# Altium footprint library L23.PcbLib: 56 footprints (part 2 of 4)
Each footprint in its own frame and in the unit in brackets; x right, y up, seen from the top. Pads: shape width x height; smd on the part's side, far side on the other; paste and mask are expansions set on the pad; w line width, h text height; cw(c..) or ccw(c..) is an arc to the next point about the centre after c.
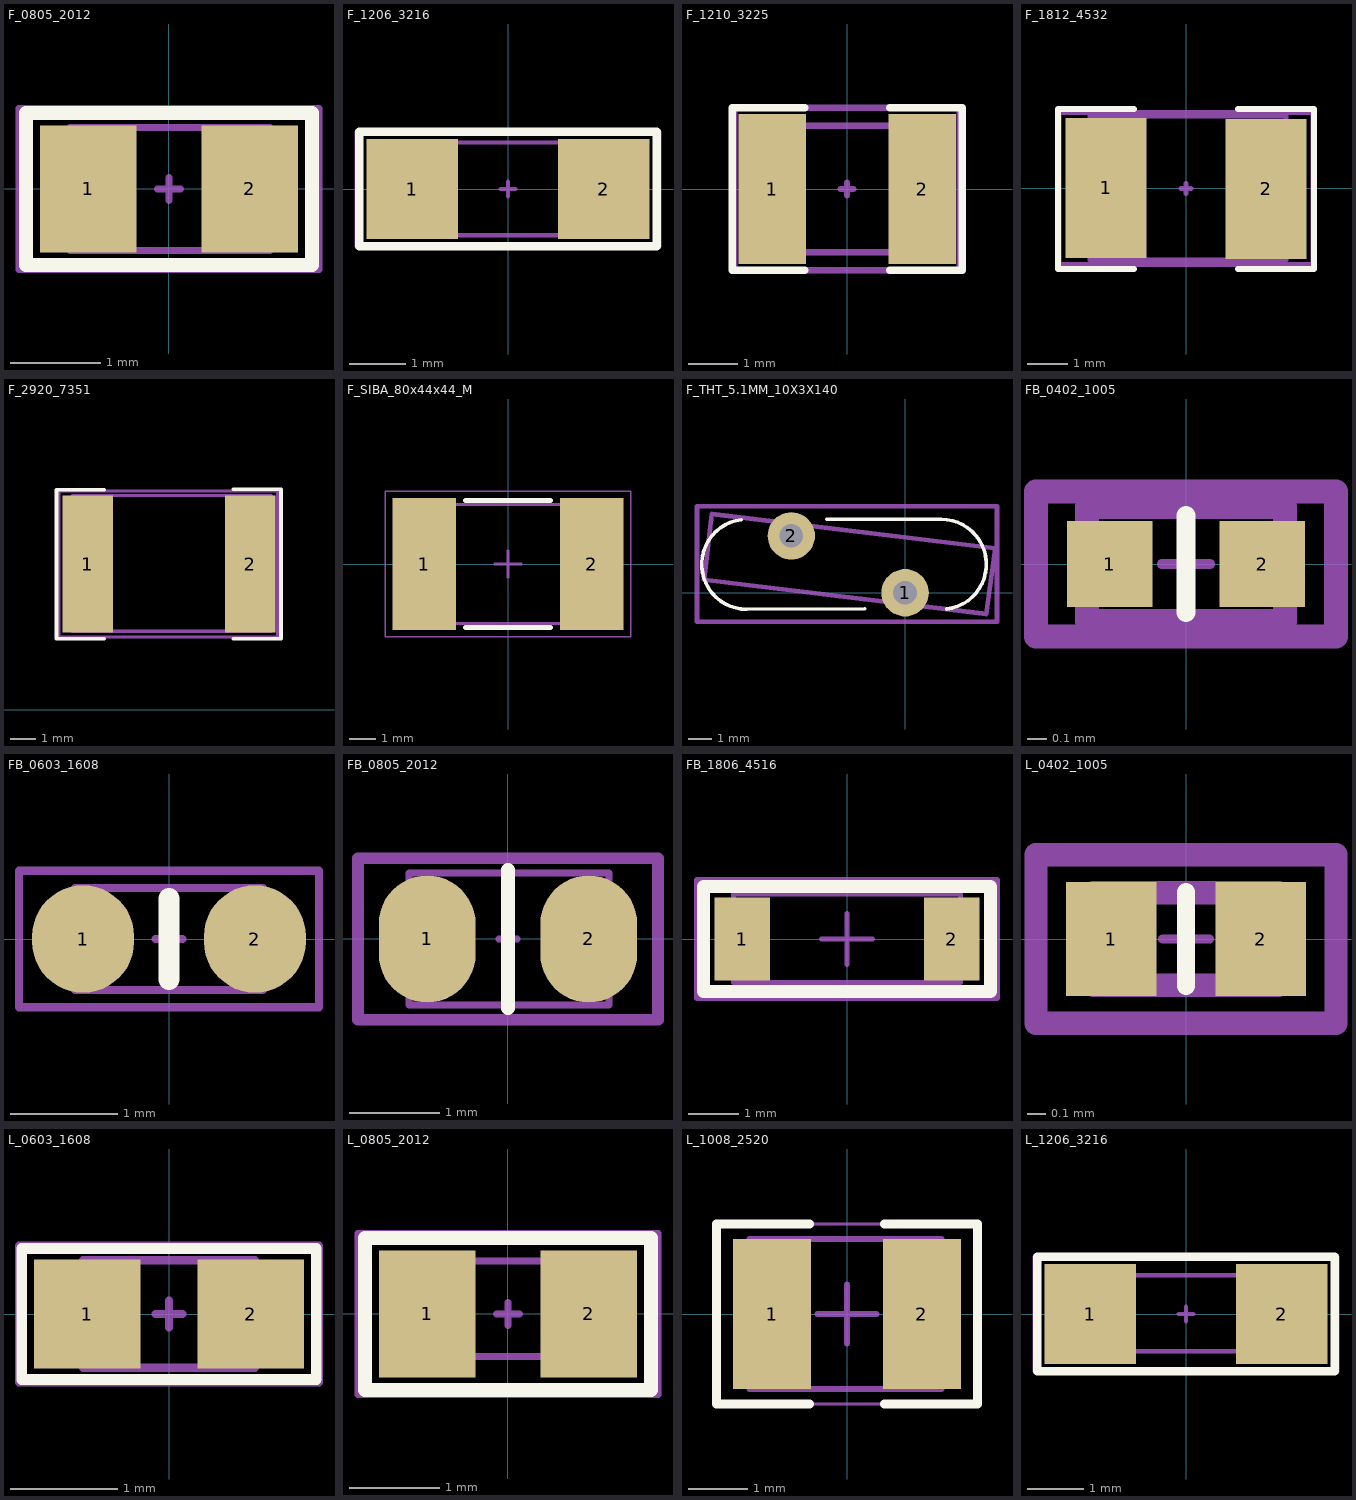
[diagram p1: the footprints below, top view; thin cyan lines are the x and y axes]

## F_0805_2012 [mil]
pads (2):
  rect 42x55 smd: 1(-35,0) 2(35,0)
Top Overlay:
  lines w6: -62,-33 -62,33 62,33 62,-33 -62,-33
Mechanical 13:
  lines w3: -42.93,-26.57 43.69,-26.57 43.69,26.58 -42.93,26.58 -42.93,-26.57
Mechanical 15:
  lines w3: -5,0 5,0 ; 0,-5 0,5 ; -65,-35 65,-35 65,35 -65,35 -65,-35
Mechanical 17:
  text "'.Designator'" at -45,-20 h10
Mechanical 19:
  text "'.Comment'" at -45,-20 h10
3D body "RES 0805 (2012 metric).STEP": height 27.05, standoff -0.51, extent -42.93,-26.57 43.69,26.58

## F_1206_3216 [mil]
pads (2):
  rect 64x70 smd: 1(-67,0) 2(67,0)
Top Overlay:
  lines w6: -104,-40 104,-40 104,40 -35,40 -104,40 -104,-40
Mechanical 13:
  lines w3: -62.88,-32.47 65.07,-32.47 65.07,32.49 -62.88,32.49 -62.88,-32.47
Mechanical 15:
  lines w3: -5,0 5,0 ; 0,-5 0,5
  lines w5: -105,-40 105,-40 105,40 -105,40 -105,-40
Mechanical 17:
  text "'.Designator'" at -70,-25 h15
Mechanical 19:
  text "'.Comment'" at -70,-25 h15
3D body "RES 1206 (3216 metric).STEP": height 27.05, standoff -0.51, extent -62.88,-32.47 65.07,32.49

## F_1210_3225 [mil]
pads (2):
  rect 54x120 smd: 1(-60,0) 2(60,0)
Top Overlay:
  lines w6: -34,-65 -92,-65 -92,65 -34,65 ; 34,-65 92,-65 92,65 34,65
Mechanical 13:
  lines w5: -63.28,-50.68 63.29,-50.68 63.29,50.69 -63.28,50.69 -63.28,-50.68
Mechanical 15:
  lines w5: -90,-65 -90,65 90,65 90,-65 -90,-65
Mechanical 17:
  text "'.Designator'" at -65,-40 h15
Mechanical 19:
  lines w5: -5,0 5,0 ; 0,-5 0,5
  text "'.Comment'" at -65,-40 h15
3D body "User Library-Fuse1210.step": height 26.57, standoff 0, extent -63.28,-50.68 63.29,50.69

## F_1812_4532 [mm]
pads (2):
  rect 2.032x3.5 smd: 1(-2,0.012) 2(2,-0.012)
Top Overlay:
  lines w0.152: -1.3,1.987 -3.205,1.987 -3.2,-2.013 -1.295,-2.013 ; 1.295,-2.013 3.2,-2.013 3.2,1.987 1.295,1.987
Mechanical 13:
  lines w0.127: -2.4,-1.787 -2.4,1.813 2.5,1.813 2.5,-1.787 -2.4,-1.787
Mechanical 15:
  lines w0.127: -0.127,0 0.127,0 ; 0,-0.127 0,0.127 ; -3.175,-1.905 -3.175,1.905 3.175,1.905 3.175,-1.905 -3.175,-1.905
Mechanical 17:
  text "'.Designator'" at -2.54,-1.524 h0.38
Mechanical 19:
  text "'.Comment'" at -2.54,-1.524 h0.38
3D body "CAP_1812.STEP": height 2.79, standoff -0.01, extent -2.4,-1.787 2.5,1.813

## F_2920_7351 [mil]
pads (2):
  rect 80x216.53 smd: 1(200,230) 2(456.89,230)
Top Overlay:
  lines w6: 225.79,111.89 150.79,111.89 150.79,347.13 225.79,347.13 ; 430.12,111.89 505.12,111.89 505.12,348.11 430.12,348.11
Mechanical 13:
  lines w5: 175.63,123.92 489.8,123.92 489.8,338.09 175.63,338.09 175.63,123.92
Mechanical 15:
  lines w5: 155,115 500,115 500,345 155,345 155,115
Mechanical 17:
  text "'.Designator'" at 170,135 h15
Mechanical 19:
  text "'.Comment'" at 170,135 h15
3D body "User Library-Fuse2920.step": height 15.24, standoff -16.26, extent 175.63,123.92 489.8,338.09

## F_SIBA_80x44x44_M [mm] "Fuse, 2-Leads, Body 8,00x4,50mm, IPC Medium Density"
height 4.5
pads (2):
  rect 2.4x5 smd: 1(-3.175,0) 2(3.175,0)
Top Overlay:
  lines w0.2: -1.6,-2.4 1.6,-2.4 ; -1.6,2.4 1.6,2.4
Mechanical 13:
  lines w0.1: -4,-2.25 4,-2.25 4,2.25 -4,2.25 -4,-2.25
Mechanical 15:
  lines w0.05: -4.65,-2.75 4.65,-2.75 4.65,2.75 -4.65,2.75 -4.65,-2.75
  lines w0.1: -0.5,0 0.5,0 ; 0,-0.5 0,0.5
Mechanical 17:
  text "'.Designator'" at -3,-0.1 h0.64
Mechanical 19:
  text "'.Comment'" at -3,-0.1 h0.64
  text "'.Designator'" at -3,-0.1 h0.64
3D body: height 4.5, standoff 0, extent 2,-2.25 4,2.25
3D body: height 4.5, standoff 0, extent -4,-2.25 -2,2.25
3D body: height 4.5, standoff 0, extent -2,-2.25 2,2.25

## F_THT_5.1MM_10X3X140 [mm]
pads (2):
  round 2 hole 1: 1(0,0) 2(-4.8,2.4)
Top Overlay:
  lines w0.152: -6.907,3.086 ccw(c-6.675,1.2) -6.675,-0.7 -1.702,-0.678 ; -3.301,3.1 1.525,3.1 ; 1.524,3.1 cw(c1.524,1.2) 1.756,-0.686
Assembly Top:
  lines w0.2: -8.475,0.55 -8.15,3.325 3.8,1.875 3.425,-0.9 -8.475,0.55
Courtyard Top:
  lines w0.2: -8.775,-1.225 -8.775,3.65 3.875,3.65 3.875,-1.225 -8.775,-1.225
3D body "User Library-MF-R250.STEP": height 18.3, standoff -7.6, extent -8.502,-0.93 3.752,3.331

## FB_0402_1005 [mm]
pads (2):
  rect 0.45x0.45 smd: 1(-0.4,0) 2(0.4,0)
Top Overlay:
  lines w0.1: 0,-0.254 0,0.254
Mechanical 13:
  lines w0.127: -0.52,-0.3 0.52,-0.3 0.52,0.3 -0.52,0.3 -0.52,-0.3
Mechanical 15:
  lines w0.051: -0.127,0 0.127,0 ; 0,-0.127 0,0.127
  lines w0.127: -0.787,-0.381 -0.787,0.381 0.787,0.381 0.787,-0.381 -0.787,-0.381
Mechanical 17:
  text "'.Designator'" at -0.384,-0.125 h0.25
Mechanical 19:
  text "'.Comment'" at -0.381,-0.127 h0.25
3D body "User Library-0402R.STEP": height 0.34, standoff 0, extent -0.52,-0.3 0.52,0.3

## FB_0603_1608 [mm]
pads (2):
  oval 0.95x1 smd mask+0: 1(-0.8,0) 2(0.8,0)
Top Overlay:
  lines w0.2: 0,-0.375 0,0.375
Mechanical 13:
  lines w0.076: -0.875,-0.475 0.875,-0.475 0.875,0.475 -0.875,0.475 -0.875,-0.475
Mechanical 15:
  lines w0.076: -0.127,0 0.127,0 ; 0,-0.127 0,0.127 ; -1.397,-0.635 1.397,-0.635 1.397,0.635 -1.397,0.635 -1.397,-0.635
Mechanical 17:
  text "'.Designator'" at -0.762,0.127 h0.25
3D body "INDC1608X95N.stp": height 0.95, standoff -0.05, extent -0.875,-0.475 0.875,0.475

## FB_0805_2012 [mil]
pads (2):
  rrect100% 42x55 smd: 1(-35,0) 2(35,0)
Top Overlay:
  lines w6: 0,-30 0,30
Assembly Top:
  lines w3: -42.87,-28.54 -42.87,28.55 43.75,28.55 43.75,-28.54 -42.87,-28.54
Courtyard Top:
  lines w3: -4,0 4,0 ; 0,-4 0,4
  lines w5: -65,-35 -65,35 65,35 65,-35 -65,-35
3D body "CAP_0805.STEP": height 52.64, standoff -0.51, extent -42.87,-28.54 43.74,28.55

## FB_1806_4516 [mm] "Chip Resistor, 2-Leads, Body 4.50x1.60mm, IPC Medium Density"
height 1.6
pads (2):
  rect 1.1x1.65 smd: 1(-2.075,0) 2(2.075,0)
Top Overlay:
  lines w0.254: -2.845,-1.041 -2.845,1.041 -2.692,1.041 2.845,1.041 2.845,-1.041 -2.845,-1.041
Mechanical 13:
  lines w0.1: -2.25,-0.864 2.25,-0.864 2.25,0.889 -2.25,0.889 -2.25,-0.864
Mechanical 15:
  lines w0.1: -0.5,0 0.5,0 ; 0,-0.5 0,0.5
  lines w0.127: -2.972,-1.168 2.972,-1.168 2.972,1.168 -2.972,1.168 -2.972,-1.168
Mechanical 17:
  text "'.Designator'" at -3.607,-0.229 h0.64
Mechanical 19:
  text "'.Comment'" at -2.489,-0.356 h0.64
3D body "User Library-BLM41P.STEP": height 1.6, standoff 0, extent -2.25,-0.787 2.25,0.813

## L_0402_1005 [mm]
pads (2):
  rect 0.49x0.62 smd: 1(-0.405,0) 2(0.405,0)
Top Overlay:
  lines w0.1: 0,-0.254 0,0.254
Mechanical 13:
  lines w0.127: -0.5,-0.25 0.5,-0.25 0.5,0.25 -0.5,0.25 -0.5,-0.25
Mechanical 15:
  lines w0.051: -0.127,0 0.127,0 ; 0,-0.127 0,0.127
  lines w0.127: -0.813,-0.457 -0.813,0.457 0.813,0.457 0.813,-0.457 -0.813,-0.457
Mechanical 17:
  text ".Designator" at -0.356,-0.127 h0.25
Mechanical 19:
  text "'.Comment'" at -0.33,-0.127 h0.25
3D body "IND0402.step": height 0.5, standoff 0, extent -0.5,-0.25 0.5,0.25

## L_0603_1608 [mil]
pads (2):
  rect 39x40 smd: 1(-30,0) 2(30,0)
Top Overlay:
  lines w3.94: -54,-24.12 -54,24 54,24 54,-24 -54,-24
Mechanical 13:
  lines w3: -31.49,-19.68 -31.49,19.69 31.5,19.69 31.5,-19.68 -31.49,-19.68
Mechanical 15:
  lines w3: -5,0 5,0 ; 0,-5 0,5 ; -55,-25 -55,25 55,25 55,-25 -55,-25
Mechanical 17:
  text "'.Designator'" at -40,-15 h10
Mechanical 19:
  text "'.Comment'" at -40,-15 h10
3D body "IND0603.step": height 30.75, standoff -0.75, extent -31.49,-19.68 31.5,19.69

## L_0805_2012 [mil]
pads (2):
  rect 42x55 smd: 1(-35,0) 2(35,0)
Top Overlay:
  lines w6: -62,-33 62,-33 62,33 -62,33 -62,-33
Mechanical 13:
  lines w3: -39.37,-18.33 39.37,-18.33 39.37,23 -39.37,23 -39.37,-18.33
Mechanical 15:
  lines w3: -5,0 5,0 ; 0,-5 0,5 ; -65,-35 65,-35 65,35 -65,35 -65,-35
Mechanical 17:
  text "'.Designator'" at -43,-11 h10
Mechanical 19:
  text "'.Comment'" at -43,-11 h10
3D body "User Library-INDC0805.stp.step": height 49.61, standoff 0.39, extent -39.37,-18.33 39.37,23

## L_1008_2520 [mil] "Chip Inductor, 2-Leads, Body 2,50x2,0mm, IPC High Density"
height 94.49
pads (2):
  rect 52x100 smd: 1(-49.87,0) 2(49.87,0)
Top Overlay:
  lines w5.91: -25,-60 -87,-60 -87,60 -25,60 ; 25,-60 87,-60 87,60 25,60
Mechanical 13:
  lines w3.94: -65,-50 -65,50 63,50 63,-50 -65,-50
Mechanical 15:
  lines w1.97: -87,-60 -87,60 87,60 87,-60 -87,-60
  lines w3.94: -19.68,0 19.69,0 ; 0,-19.68 0,19.68
Mechanical 17:
  text "'.Designator'" at -60,-25 h15
Mechanical 19:
  text "'.Comment'" at -60,-25 h15
3D body "User Library-3225.STEP": height 74.61, standoff 0, extent -62.99,-49.21 63,49.22

## L_1206_3216 [mil]
pads (2):
  rect 64x70 smd: 1(-67,0) 2(67,0)
Top Overlay:
  lines w6: -104,-40 104,-40 104,40 -35,40 -104,40 -104,-40
Mechanical 13:
  lines w3: -62.99,-26 62.99,-26 62.99,27.15 -62.99,27.15 -62.99,-26
Mechanical 15:
  lines w3: -5,0 5,0 ; 0,-5 0,5
  lines w5: -105,-40 105,-40 105,40 -105,40 -105,-40
Mechanical 17:
  text "'.Designator'" at -65,-20 h10
Mechanical 19:
  text "'.Comment'" at -65,-20 h10
3D body "User Library-Chip Inductor 1206.step": height 99.21, standoff 0.79, extent -62.99,-26 62.99,27.15